# Altium footprint library SSQ-110-02-G-D-RA.PcbLib: 1 footprints
Each footprint in its own frame and in the unit in brackets; x right, y up, seen from the top. Pads: shape width x height; smd on the part's side, far side on the other; paste and mask are expansions set on the pad; w line width, h text height; cw(c..) or ccw(c..) is an arc to the next point about the centre after c.
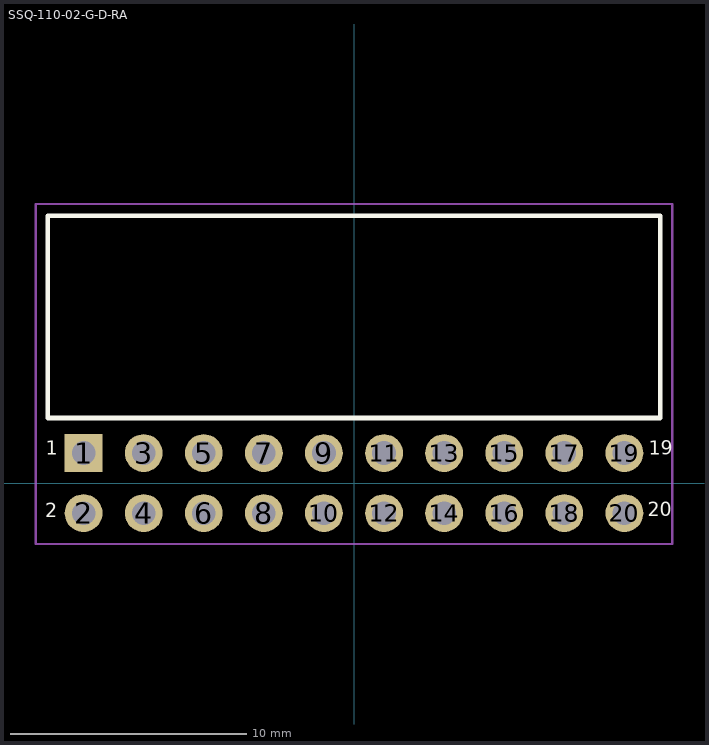
[diagram p0: the footprint, top view; thin cyan lines are the x and y axes]

## SSQ-110-02-G-D-RA [mm]
pads (20):
  rect 1.6x1.6 hole 1: 1(-11.43,1.27)
  round 1.6 hole 1: 2(-11.43,-1.27) 3(-8.89,1.27) 4(-8.89,-1.27) 5(-6.35,1.27) 6(-6.35,-1.27) 7(-3.81,1.27) 8(-3.81,-1.27) 9(-1.27,1.27) 10(-1.27,-1.27) 11(1.27,1.27) 12(1.27,-1.27) 13(3.81,1.27) 14(3.81,-1.27) 15(6.35,1.27) 16(6.35,-1.27) 17(8.89,1.27) 18(8.89,-1.27) 19(11.43,1.27) 20(11.43,-1.27)
Top Overlay:
  lines w0.2: -12.95,2.75 -12.95,11.3 12.95,11.3 12.95,2.75 -12.95,2.75
  text "20" at 12.425,-1.588 h1
  text "19" at 12.45,1.012 h1
  text "1" at -13.025,1 h1
  text "2" at -13.05,-1.625 h1
Top Courtyard:
  lines w0.1: -13.45,-2.575 -13.45,11.8 13.45,11.8 13.45,-2.575 -13.45,-2.575
3D body "SSQ-110-02-L-D-RA.stp": height 4.98, standoff -2.52, extent -12.954,-1.592 12.954,11.299